# Altium footprint library PAL_0 (1).PcbLib: 141 footprints (part 9 of 9)
Each footprint in its own frame and in the unit in brackets; x right, y up, seen from the top. Pads: shape width x height; smd on the part's side, far side on the other; paste and mask are expansions set on the pad; w line width, h text height; cw(c..) or ccw(c..) is an arc to the next point about the centre after c.
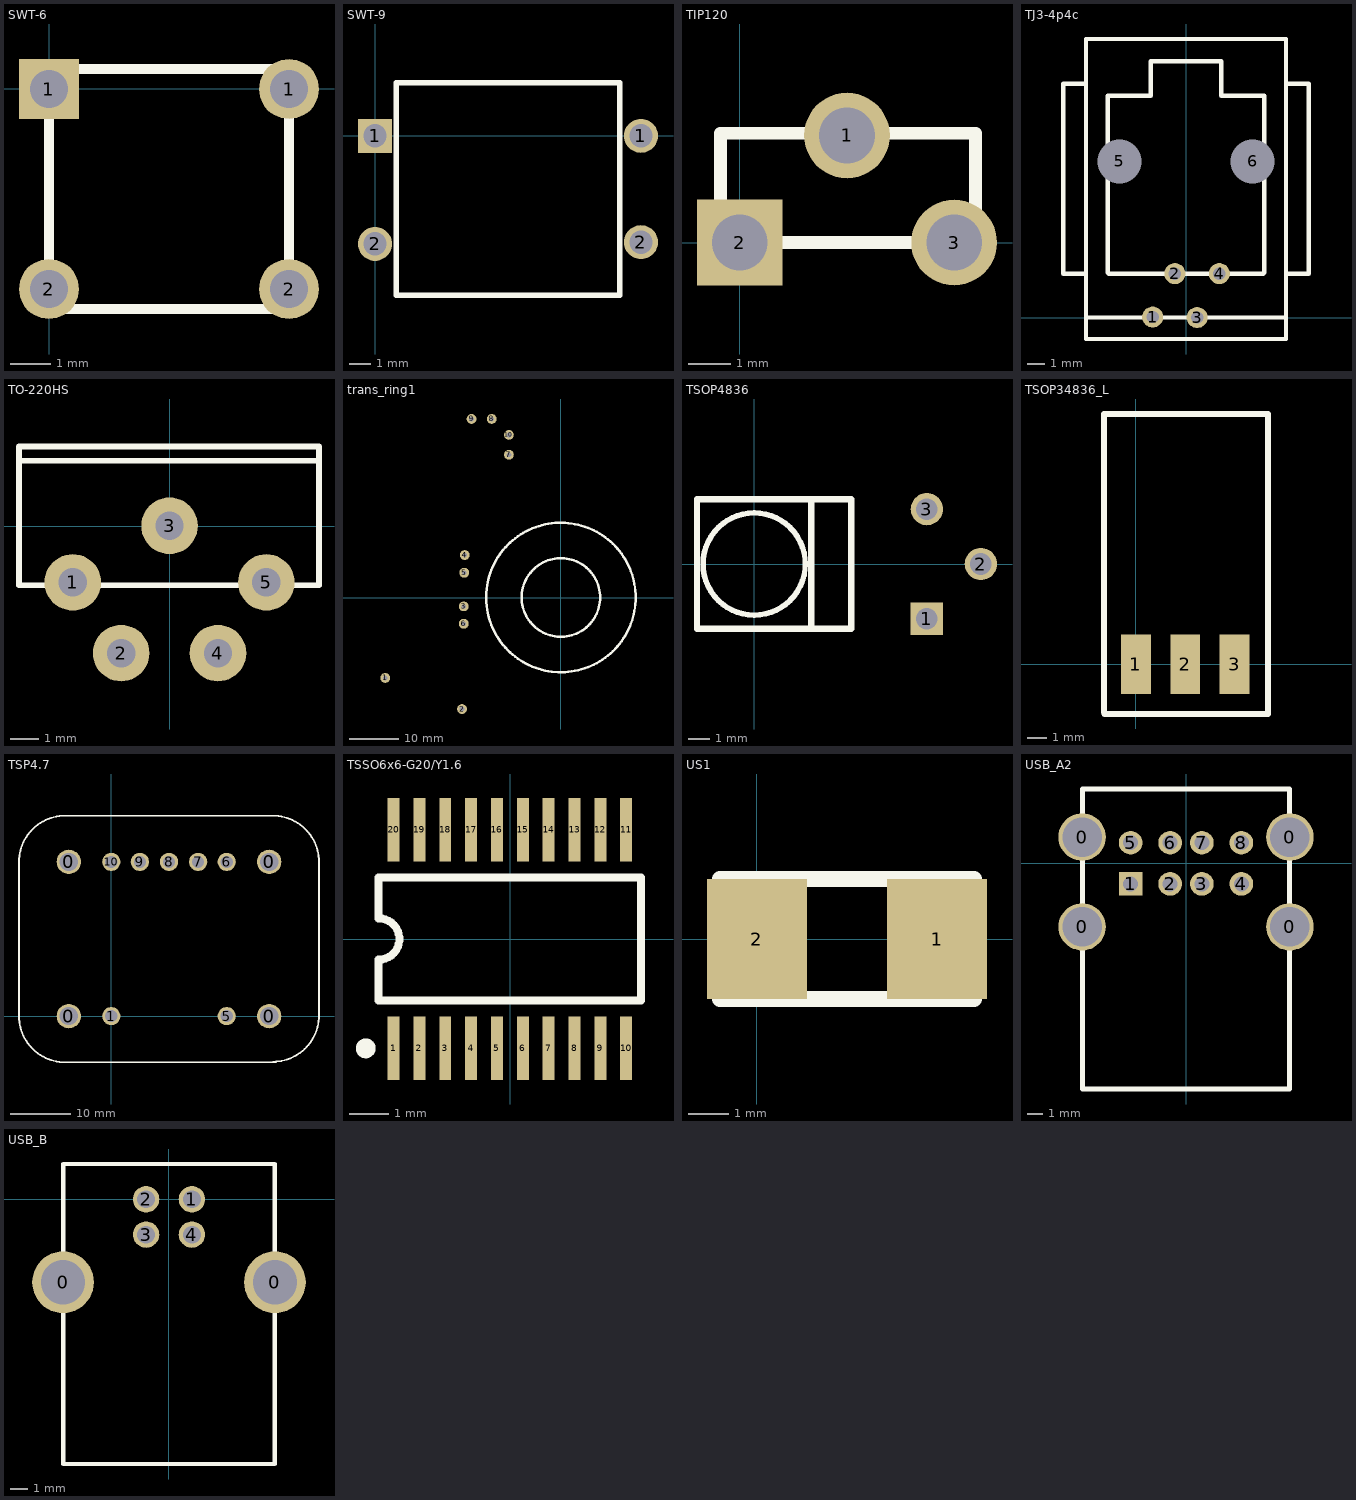
[diagram p8: the footprints below, top view; thin cyan lines are the x and y axes]

## SWT-6 [mm]
pads (4):
  rect 1.5x1.5 hole 0.95: 1(-0.009,-0.001)
  round 1.5 hole 0.95: 1(5.991,-0.001) 2(-0.009,-5.001) 2(5.991,-5.001)
Top Overlay:
  lines w0.254: -0.009,-5.501 5.991,-5.501 5.991,0.499 -0.009,0.499 -0.009,-5.501

## SWT-9 [mm]
pads (4):
  rect 1.6x1.6 hole 1.1: 1(-0.009,-0.003)
  round 1.6 hole 1.1: 1(12.491,-0.003) 2(-0.009,-5.083) 2(12.491,-5.003)
Top Overlay:
  lines w0.254: 0.991,-7.503 0.991,2.497 11.491,2.497 11.491,-7.503 0.991,-7.503

## TIP120 [mm]
pads (3):
  round 2 hole 1.3: 1(2.5,2.5) 3(5,0)
  rect 2x2 hole 1.3: 2(0,0)
Top Overlay:
  lines w0.3: -0.45,0 0,0 5.5,0 5.5,2.55 -0.45,2.55 -0.45,0

## TJ3-4p4c [mm]
pads (6):
  round 1.2 hole 0.7: 1(-1.9,0.025) 2(-0.635,2.5) 3(0.635,0) 4(1.9,2.5)
  round 1.2 hole 2.5: 5(-3.8,8.9) 6(3.8,8.9)
Top Overlay:
  lines w0.254: -5.7,2.5 -7,2.5 -7,13.325 -5.7,13.325 ; -0.025,2.5 -4.4,2.5 -4.45,2.55 -4.45,12.65 -2,12.65 -2,14.6 0,14.6 2,14.6 2,12.65 4.45,12.65 4.45,2.55 4.4,2.5 0.025,2.5 ; 5.7,2.5 7,2.5 7,13.325 5.7,13.325 ; -5.7,0 -5.7,-1.225 5.7,-1.225 5.7,0 ; -5.7,0 0,0 5.7,0 ; -5.7,0 -5.7,15.875 0,15.875 5.7,15.875 5.7,0

## TO-220HS [mm]
pads (5):
  round 2 hole 1: 1(-3.429,-1.989) 2(-1.719,-4.489) 3(-0.009,0.011) 4(1.701,-4.489) 5(3.411,-1.989)
Top Overlay:
  lines w0.2: -5.329,2.311 5.271,2.311 ; -5.329,-2.089 -5.329,2.811 5.271,2.811 5.271,-2.089 -5.329,-2.089

## trans_ring1 [mm]
pads (10):
  round 2 hole 1: 1(-35.8,-16.39) 2(-20.15,-22.74) 3(-19.8,-1.79) 4(-19.6,8.66) 5(-19.7,5.06) 6(-19.8,-5.34) 8(-14.1,36.41) 9(-18.2,36.41) 10(-10.6,33.16)
  round 2 hole 1 unplated: 7(-10.6,29.11)
Top Overlay:
  circle w0.5: c0,0.01 r8.001
  circle w0.5: c0,0.01 r15.24

## TSOP4836 [mm]
pads (3):
  rect 1.5x1.5 hole 1: 1(8,-2.54)
  round 1.5 hole 1: 2(10.5,0) 3(8,2.54)
Top Overlay:
  circle w0.254: c0,0 r2.369
  lines w0.3: 2.65,-3 2.65,3 ; -2.65,-3 -2.65,3 4.5,3 4.5,-3 -2.65,-3

## TSOP34836_L [mm]
pads (3):
  rect 1.5x3 smd: 1(0,0) 2(2.5,0) 3(5,0)
Top Overlay:
  lines w0.3: -1.625,-2.45 -1.625,12.7 6.7,12.7 6.7,-2.525 -1.6,-2.525

## TSP4.7 [mm]
pads (11):
  round 4 hole 3: 0(-6.999,0.009) 0(-6.999,25.409) 0(26.001,0.009) 0(26.001,25.409)
  round 3 hole 2: 1(0.001,0.009) 5(19.001,0.009) 6(19.001,25.409) 7(14.301,25.409) 8(9.501,25.409) 9(4.701,25.409) 10(0.001,25.409)
Top Overlay:
  lines w0.3: 26.601,-7.491 ccw(c26.601,0.109) 34.201,0.109 ; 27.101,-7.591 -7.599,-7.591 cw(c-7.599,0.009) -15.199,0.009 -15.199,25.409 cw(c-7.599,25.409) -7.599,33.009 26.601,33.009 cw(c26.601,25.409) 34.201,25.409 34.201,0.009

## TSSO6x6-G20/Y1.6 [mm]
pads (20):
  rect 0.3x1.6 smd: 1(-2.934,-2.743) 2(-2.284,-2.743) 3(-1.634,-2.743) 4(-0.984,-2.743) 5(-0.334,-2.743) 6(0.316,-2.743) 7(0.966,-2.743) 8(1.616,-2.743) 9(2.266,-2.743) 10(2.916,-2.743) 11(2.916,2.757) 12(2.266,2.757) 13(1.616,2.757) 14(0.966,2.757) 15(0.316,2.757) 16(-0.334,2.757) 17(-0.984,2.757) 18(-1.634,2.757) 19(-2.284,2.757) 20(-2.934,2.757)
Top Overlay:
  circle w0.25: c-3.634,-2.743 r0.125
  lines w0.2: -3.309,-1.543 3.291,-1.543 3.291,1.557 -3.309,1.557 -3.309,0.527 cw(c-3.309,0.007) -3.309,-0.513 -3.309,-1.543

## US1 [mm]
pads (2):
  rect 2.5x3 smd: 1(4.5,0) 2(0,0)
Top Overlay:
  lines w0.4: 0.345,-1.5 0.345,1.5 ; -0.925,-1.5 -0.925,1.5 5.425,1.5 5.425,-1.5 -0.925,-1.5

## USB_A2 [mm]
pads (12):
  round 3 hole 2.5: 0(-6.57,-4.02) 0(-6.57,1.66) 0(6.57,-4.02) 0(6.57,1.66)
  rect 1.5x1.5 hole 0.95: 1(-3.5,-1.3)
  round 1.5 hole 0.95: 2(-1,-1.3) 3(1,-1.3) 4(3.5,-1.3) 5(-3.5,1.3) 6(-1,1.3) 7(1,1.3) 8(3.5,1.3)
Top Overlay:
  lines w0.3: -6.55,-14.28 6.55,-14.28 6.55,4.7 -6.55,4.7 -6.55,-14.28

## USB_B [mm]
pads (6):
  round 3.5 hole 2.5: 0(-5.987,-4.689) 0(6.013,-4.689)
  round 1.5 hole 1: 1(1.313,0.011) 2(-1.287,0.011) 3(-1.287,-1.989) 4(1.313,-1.989)
Top Overlay:
  lines w0.254: -5.987,-14.989 -5.987,0.011 -5.987,2.011 6.013,2.011 6.013,-14.989 -5.987,-14.989